# Altium footprint library PES1240SN0024.PcbLib: 1 footprints
Each footprint in its own frame and in the unit in brackets; x right, y up, seen from the top. Pads: shape width x height; smd on the part's side, far side on the other; paste and mask are expansions set on the pad; w line width, h text height; cw(c..) or ccw(c..) is an arc to the next point about the centre after c.
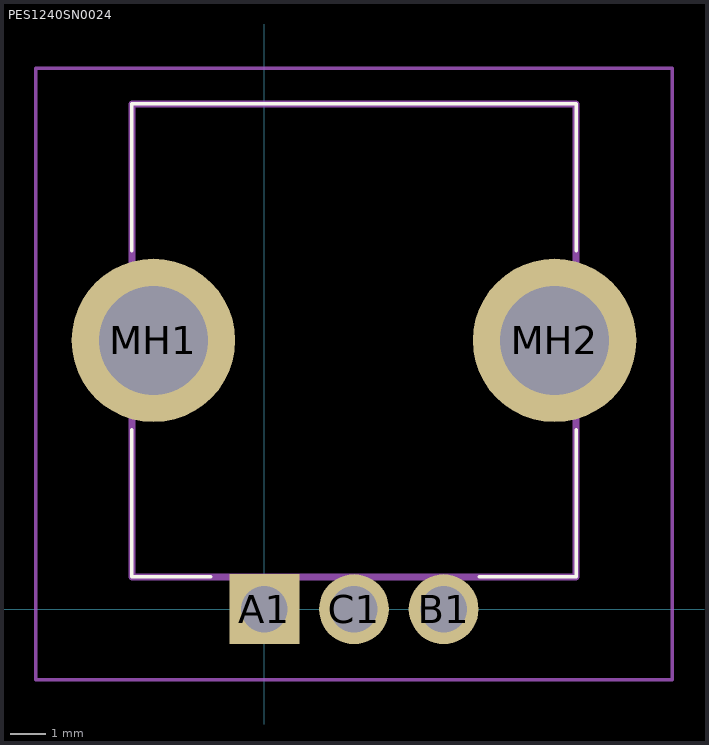
[diagram p0: the footprint, top view; thin cyan lines are the x and y axes]

## PES1240SN0024 [mm]
pads (5):
  rect 1.95x1.95 hole 1.3: A1(0,0)
  round 1.95 hole 1.3: B1(5,0) C1(2.5,0)
  round 4.562 hole 3.041: MH1(-3.1,7.5) MH2(8.1,7.5)
Top Overlay:
  lines w0.1: -3.7,5 -3.7,0.9 -1.5,0.9 ; -3.7,10 -3.7,14.1 8.7,14.1 8.7,10 ; 6,0.9 8.7,0.9 8.7,5
Mechanical 15:
  lines w0.2: -3.7,0.9 8.7,0.9 8.7,14.1 -3.7,14.1 -3.7,0.9
Mechanical 20:
  lines w0.1: -6.381,-1.975 11.381,-1.975 11.381,15.1 -6.381,15.1 -6.381,-1.975